# Altium schematic symbol library TL1105AF160Q.SchLib: 1 symbol
Pins are listed as number, name and electrical type; pins without a type are passive.

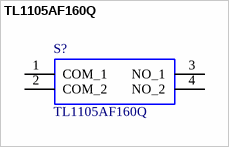
[diagram p0: symbol TL1105AF160Q]

## TL1105AF160Q
designator S?
E-SWITCH - TL1105AF160Q - SWITCH, TACTILE SPST, 50mA, THROUGH HOLE; Geometry.Height: 6.8mm; Manufacturer_Name: E-Switch; Manufacturer_Part_Number: TL1105AF160Q; Mouser Part Number: 612-TL1105A; Mouser Price/Stock: https://www.mouser.co.uk/ProductDetail/E-Switch/TL1105AF160Q?qs=YXf4ACKMM4wdc4witUH7eQ%3D%3D; Arrow Part Number: *; Arrow Price/Stock: *; Mouser Testing Part Number: *; Mouser Testing Price/Stock: *; Datasheet Link: https://componentsearchengine.com/Datasheets/1/TL1105AF160Q.pdf
footprint TL1105AF160Q
pins: 1 COM_1, 2 COM_2, 3 NO_1, 4 NO_2